# Altium schematic symbol library Schlib1.SchLib: 16 symbols
Pins are listed as number, name and electrical type; pins without a type are passive.

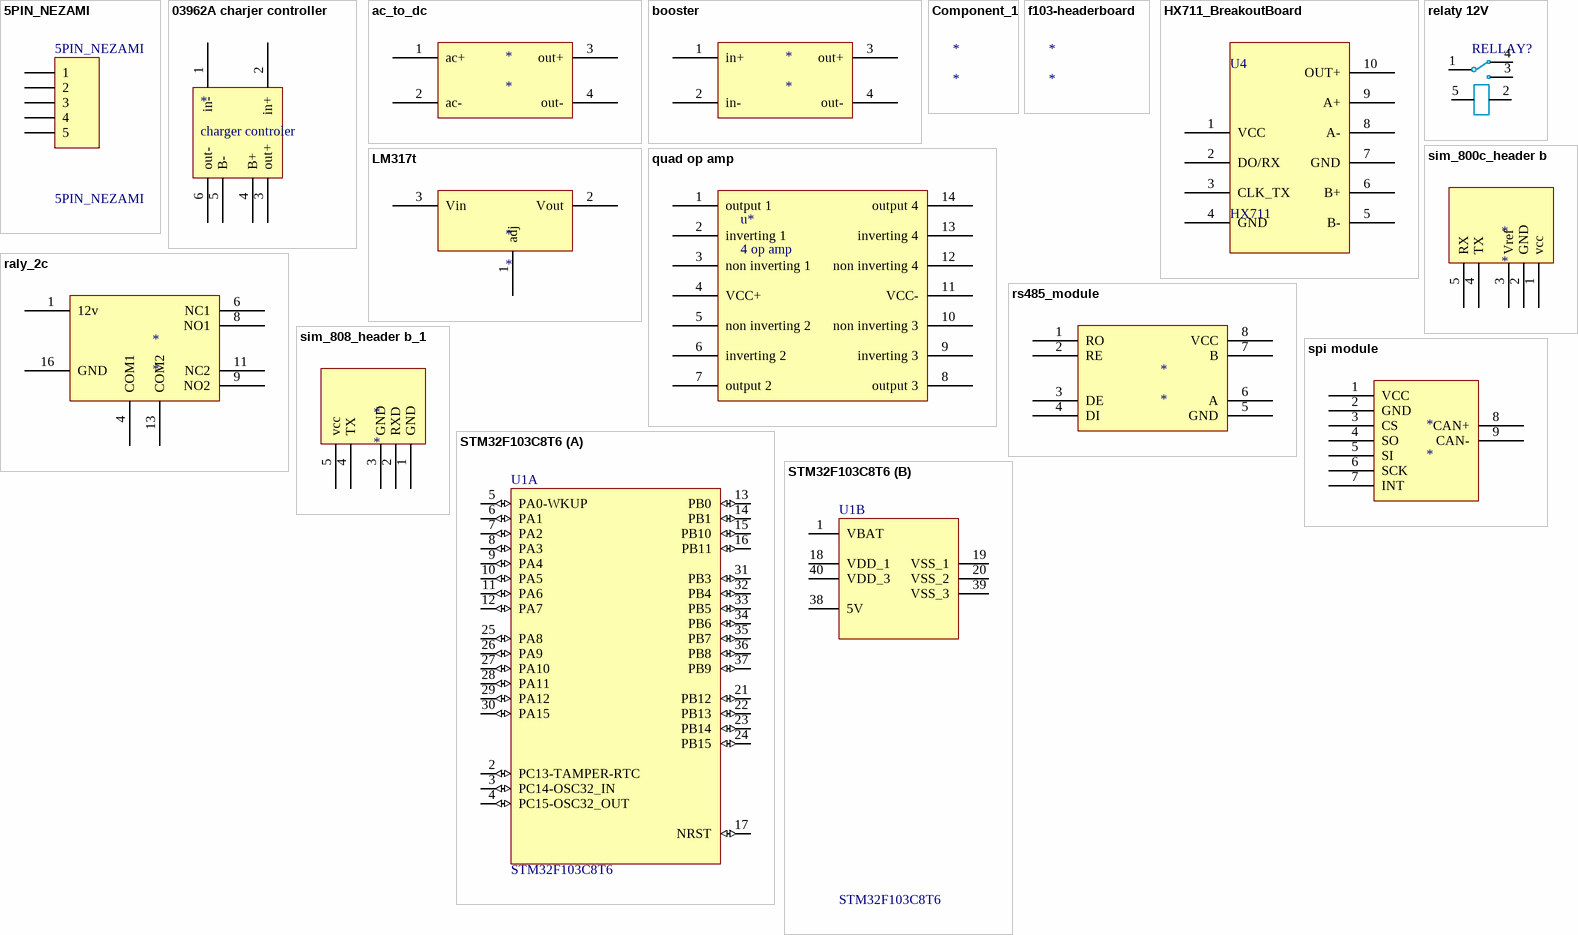
[diagram p0: symbols 5PIN_NEZAMI to STM32F103C8T6]

## 5PIN_NEZAMI
designator 5PIN_NEZAMI
Header, 8-Pin; LatestRevisionDate: 17-Jul-2002; LatestRevisionNote: Re-released for DXP Platform.; Publisher: Altium Limited
footprint Model Name (Footprint not found)
footprint 5PIN_NEZAMI_CAN
pins: 1, 2, 3, 4, 5

## 03962A charjer controller
designator *, comment charger controler
footprint CHARGER
pins: 1 in-, 2 in+, 3 out+, 4 B+, 5 B-, 6 out-

## ac_to_dc
designator *
pins: 1 ac+, 2 ac-, 3 out+, 4 out-

## booster
designator *
pins: 1 in+, 2 in-, 3 out+, 4 out-

## Component_1
designator *

## f103-headerboard
designator *

## HX711_BreakoutBoard
designator U4, comment HX711
Breakout_Board
pins: 1 VCC, 2 DO/RX, 3 CLK_TX, 4 GND, 5 B-, 6 B+, 7 GND, 8 A-, 9 A+, 10 OUT+

## LM317t
designator *
footprint LM317T (Connector; Header; 3 Position)
pins: 1 adj, 2 Vout, 3 Vin

## quad op amp
designator u*, comment 4 op amp
footprint SOP14
pins: 1 output 1, 2 inverting 1, 3 non inverting 1, 4 VCC+, 5 non inverting 2, 6 inverting 2, 7 output 2, 8 output 3, 9 inverting 3, 10 non inverting 3, 11 VCC-, 12 non inverting 4, 13 inverting 4, 14 output 4

## raly_2c
designator *
footprint RELAY12-2c-HJR1-2C
pins: 1 12v, 4 COM1, 6 NC1, 8 NO1, 9 NO2, 11 NC2, 13 COM2, 16 GND

## relaty 12V
designator RELLAY?, comment hjr-21ff-12v-12A  (value not drawn)
footprint Relay 15.40x12.10x13.10
footprint RELAY3
pins: 1, 2, 3, 4, 5

## rs485_module
designator *
footprint rs485_modul
pins: 1 RO, 2 RE, 3 DE, 4 DI, 5 GND, 6 A, 7 B, 8 VCC

## sim_800c_header b
designator *
footprint SIM800_MODULE (Connector; Header; 5 Position)
pins: 1 vcc, 2 GND, 3 Vref, 4 TX, 5 RX

## sim_808_header b_1
designator *
footprint SIM800_MODULE (Connector; Header; 5 Position)
pins: 1 GND, 2 RXD, 3 GND, 4 TX, 5 vcc

## spi module
designator *
footprint SPI_CAN (Connector; Header; 8 Position)
pins: 1 VCC, 2 GND, 3 CS, 4 SO, 5 SI, 6 SCK, 7 INT, 8 CAN+, 9 CAN-

## STM32F103C8T6
designator U1
ARM Cortex-M3 32-bit MCU, 64 KB Flash, 20 KB Internal RAM, 37 I/Os, 48-pin LQFP, -40 to 85 degC, Tray; A/D Converter: 2x12-bit (10 Channel); FLASH Size (Prog) (kB): 64; I/Os (High Current): 37; Internal RAM Size (kB): 20; Operating Frequency(F) (Processor speed) (MHz): 72; Supply Voltage(Vcc) min (V): 2; DatasheetVersion: Rev. 16; PackageVersion: Rev. 6, 06/2013; PackageReference: LQFP48; PackageDescription: 48-Pin Low Profile Quad Flat Package, 7 x 7 mm Body, 0.5 mm Pitch; Supplier 1: Digi-Key; Supplier Part Number 1: 497-6063-ND; Supplier 2: Farnell; Supplier Part Number 2: 1447637; Supplier 3: Newark; Supplier Part Number 3: 59M2182; Supplier 4: Newark; Supplier Part Number 4: 57P1222; Supplier 5: Mouser; Supplier Part Number 5: 511-STM32F103C8T6; Core: ARM Cortex-M3; Packing: Tray; Mounting Technology: Surface Mount; PartNumber: STM32F103C8T6; ComponentLink1Description: Manufacturer URL; ComponentLink1URL: http://www.st.com/web/en/home.html; ComponentLink2Description: Datasheet; ComponentLink2URL: http://www.st.com/st-web-ui/static/active/en/resource/technical/document/datasheet/CD00161566.pdf; ComponentLink3Description: Package Specification; ComponentLink3URL: http://www.st.com/st-web-ui/static/active/en/resource/technical/document/datasheet/DM00058181.pdf
footprint STM-LQFP48_N (QFP, 48-Leads, Body 7x7mm, Pitch 0.5mm, IPC Medium Density)
footprint STM-LQFP48_L (QFP, 48-Leads, Body 7x7mm, Pitch 0.5mm, IPC High Density)
footprint STM-LQFP48_M (QFP, 48-Leads, Body 7x7mm, Pitch 0.5mm, IPC Low Density)
footprint header_board_st_40
part A pins: 2 PC13-TAMPER-RTC (io) "PC13-TAMPER-RTC/PC13/TAMPER-RTC", 3 PC14-OSC32_IN (io) "PC14-OSC32_IN/PC14/OSC32_IN", 4 PC15-OSC32_OUT (io) "PC15-OSC32_OUT/PC15/OSC32_OUT", 5 PA0-WKUP (io) "PA0-WKUP/PA0/WKUP/USART2_CTS/ADC12_IN0/TIM2_CH1_ETR", 6 PA1 (io) "PA1/USART2_RTS/ADC12_IN1/TIM2_CH2", 7 PA2 (io) "PA2/USART2_TX/ADC12_IN2/TIM2_CH3", 8 PA3 (io) "PA3/USART2_RX/ADC12_IN3/TIM2_CH4", 9 PA4 (io) "PA4/SPI1_NSS/USART2_CK/ADC12_IN4", 10 PA5 (io) "PA5/SPI1_SCK/ADC12_IN5", 11 PA6 (io) "PA6/SPI1_MISO/ADC12_IN6/TIM3_CH1/TIM1_BKIN", 12 PA7 (io) "PA7/SPI1_MOSI/ADC12_IN7/TIM3_CH2/TIM1_CH1N", 13 PB0 (io) "PB0/ADC12_IN8/TIM3_CH3/TIM1_CH2N", 14 PB1 (io) "PB1/ADC12_IN9/TIM3_CH4/TIM1_CH3N", 15 PB10 (io) "PB10/I2C2_SCL/USART3_TX/TIM2_CH3", 16 PB11 (io) "PB11/I2C2_SDA/USART3_RX/TIM2_CH4", 17 NRST (io), 21 PB12 (io) "PB12/SPI2_NSS/I2C2_SMBAl/USART3_CK/TIM1_BKIN", 22 PB13 (io) "PB13/SPI2_SCK/USART3_CTS/TIM1_CH1N", 23 PB14 (io) "PB14/SPI2_MISO/USART3_RTS/TIM1_CH2N", 24 PB15 (io) "PB15/SPI2_MOSI/TIM1_CH3N", 25 PA8 (io) "PA8/USART1_CK/TIM1_CH1/MCO", 26 PA9 (io) "PA9/USART1_TX/TIM1_CH2", 27 PA10 (io) "PA10/USART1_RX/TIM1_CH3", 28 PA11 (io) "PA11/USART1_CTS/CANRX/USBDM/TIM1_CH4", 29 PA12 (io) "PA12/USART1_RTS/CANTX/USBDP/TIM1_ETR", 30 PA15 (io) "PA15/JTDI/TIM2_CH1_ETR/SPI1_NSS", 31 PB3 (io) "PB3/JTDO/TIM2_CH2/TRACESWO/SPI1_SCK", 32 PB4 (io) "PB4/NJTRST/TIM3_CH1/SPI1_MISO", 33 PB5 (io) "PB5/I2C1_SMBAI/TIM3_CH2/SPI1_MOSI", 34 PB6 (io) "PB6/I2C1_SCL/TIM4_CH1/USART1_TX", 35 PB7 (io) "PB7/I2C1_SDA/TIM4_CH2/USART1_RX", 36 PB8 (io) "PB8/TIM4_CH3/I2C1_SCL/CANRX", 37 PB9 (io) "PB9/TIM4_CH4/I2C1_SDA/CANTX"
part B pins: 1 VBAT (power), 18 VDD_1 (power), 19 VSS_1 (power), 20 VSS_2 (power), 38 5V (power) "VSSA", 39 VSS_3 (power), 40 VDD_3 (power)